# EAGLE library part ATSAM3U*CA-? (library ic-ATMEL)
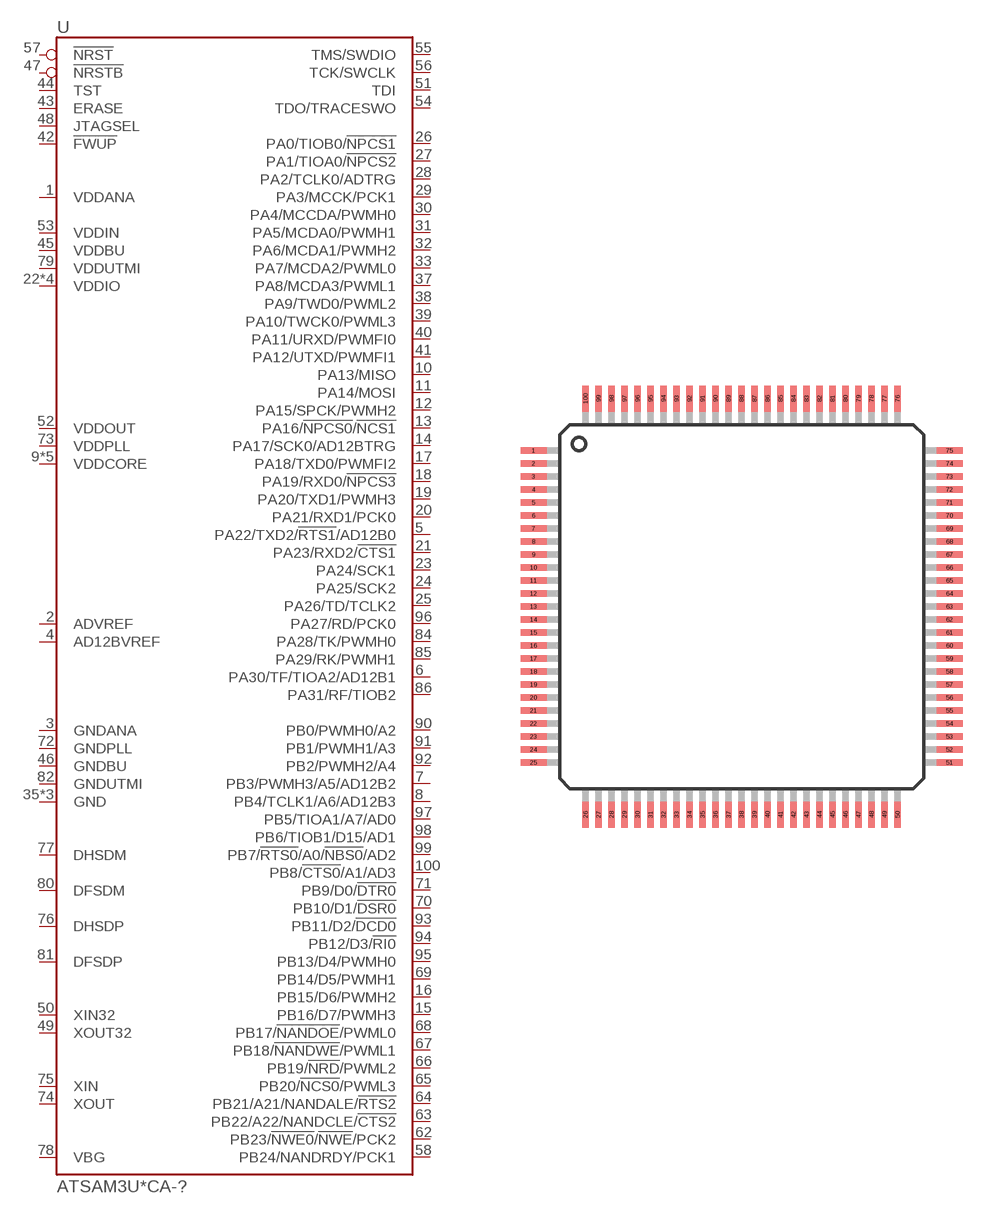
[diagram p21: symbol with the pads of QFP100-0.5; footprint QFP100-0.5]

Designator prefix U

## ATSAM3U1CA-AU, ATSAM3U2CA-AU, ATSAM3U4CA-AU  [QFP100-0.5]
1  VDDANA
2  ADVREF
3  GNDANA
4  AD12BVREF
5  PA22/TXD2/!RTS1!/AD12B0
6  PA30/TF/TIOA2/AD12B1
7  PB3/PWMH3/A5/AD12B2
8  PB4/TCLK1/A6/AD12B3
9  VDDCORE
10  PA13/MISO
11  PA14/MOSI
12  PA15/SPCK/PWMH2
13  PA16/!NPCS0!/!NCS1!
14  PA17/SCK0/AD12BTRG
15  PB16/D7/PWMH3
16  PB15/D6/PWMH2
17  PA18/TXD0/PWMFI2
18  PA19/RXD0/!NPCS3!
19  PA20/TXD1/PWMH3
20  PA21/RXD1/PCK0
21  PA23/RXD2/!CTS1!
22  VDDIO
23  PA24/SCK1
24  PA25/SCK2
25  PA26/TD/TCLK2
26  PA0/TIOB0/!NPCS1!
27  PA1/TIOA0/!NPCS2!
28  PA2/TCLK0/ADTRG
29  PA3/MCCK/PCK1
30  PA4/MCCDA/PWMH0
31  PA5/MCDA0/PWMH1
32  PA6/MCDA1/PWMH2
33  PA7/MCDA2/PWML0
34  VDDCORE
35  GND
36  VDDIO
37  PA8/MCDA3/PWML1
38  PA9/TWD0/PWML2
39  PA10/TWCK0/PWML3
40  PA11/URXD/PWMFI0
41  PA12/UTXD/PWMFI1
42  !FWUP
43  ERASE
44  TST
45  VDDBU
46  GNDBU
47  !NRSTB
48  JTAGSEL
49  XOUT32
50  XIN32
51  TDI
52  VDDOUT
53  VDDIN
54  TDO/TRACESWO
55  TMS/SWDIO
56  TCK/SWCLK
57  !NRST
58  PB24/NANDRDY/PCK1
59  VDDCORE
60  VDDIO
61  GND
62  PB23/!NWE0!/!NWE!/PCK2
63  PB22/A22/NANDCLE/!CTS2!
64  PB21/A21/NANDALE/!RTS2!
65  PB20/!NCS0!/PWML3
66  PB19/!NRD!/PWML2
67  PB18/!NANDWE!/PWML1
68  PB17/!NANDOE!/PWML0
69  PB14/D5/PWMH1
70  PB10/D1/!DSR0!
71  PB9/D0/!DTR0!
72  GNDPLL
73  VDDPLL
74  XOUT
75  XIN
76  DHSDP
77  DHSDM
78  VBG
79  VDDUTMI
80  DFSDM
81  DFSDP
82  GNDUTMI
83  VDDCORE
84  PA28/TK/PWMH0
85  PA29/RK/PWMH1
86  PA31/RF/TIOB2
87  VDDCORE
88  VDDIO
89  GND
90  PB0/PWMH0/A2
91  PB1/PWMH1/A3
92  PB2/PWMH2/A4
93  PB11/D2/!DCD0!
94  PB12/D3/!RI0!
95  PB13/D4/PWMH0
96  PA27/RD/PCK0
97  PB5/TIOA1/A7/AD0
98  PB6/TIOB1/D15/AD1
99  PB7/!RTS0!/A0/!NBS0!/AD2
100  PB8/!CTS0!/A1/AD3

## Footprint QFP100-0.5 (pad centres in mm)
smd 1 x 0.25: 1 -8,6; 2 -8,5.5; 3 -8,5; 4 -8,4.5; 5 -8,4; 6 -8,3.5; 7 -8,3; 8 -8,2.5; 9 -8,2; 10 -8,1.5; 11 -8,1; 12 -8,0.5; 13 -8,0; 14 -8,-0.5; 15 -8,-1; 16 -8,-1.5; 17 -8,-2; 18 -8,-2.5; 19 -8,-3; 20 -8,-3.5; 21 -8,-4; 22 -8,-4.5; 23 -8,-5; 24 -8,-5.5; 25 -8,-6; 51 8,-6; 52 8,-5.5; 53 8,-5; 54 8,-4.5; 55 8,-4; 56 8,-3.5; 57 8,-3; 58 8,-2.5; 59 8,-2; 60 8,-1.5; 61 8,-1; 62 8,-0.5; 63 8,0; 64 8,0.5; 65 8,1; 66 8,1.5; 67 8,2; 68 8,2.5; 69 8,3; 70 8,3.5; 71 8,4; 72 8,4.5; 73 8,5; 74 8,5.5; 75 8,6
smd 0.25 x 1: 26 -6,-8; 27 -5.5,-8; 28 -5,-8; 29 -4.5,-8; 30 -4,-8; 31 -3.5,-8; 32 -3,-8; 33 -2.5,-8; 34 -2,-8; 35 -1.5,-8; 36 -1,-8; 37 -0.5,-8; 38 0,-8; 39 0.5,-8; 40 1,-8; 41 1.5,-8; 42 2,-8; 43 2.5,-8; 44 3,-8; 45 3.5,-8; 46 4,-8; 47 4.5,-8; 48 5,-8; 49 5.5,-8; 50 6,-8; 76 6,8; 77 5.5,8; 78 5,8; 79 4.5,8; 80 4,8; 81 3.5,8; 82 3,8; 83 2.5,8; 84 2,8; 85 1.5,8; 86 1,8; 87 0.5,8; 88 0,8; 89 -0.5,8; 90 -1,8; 91 -1.5,8; 92 -2,8; 93 -2.5,8; 94 -3,8; 95 -3.5,8; 96 -4,8; 97 -4.5,8; 98 -5,8; 99 -5.5,8; 100 -6,8